# Altium footprint library QFN10-.PcbLib: 1 footprints
Each footprint in its own frame and in the unit in brackets; x right, y up, seen from the top. Pads: shape width x height; smd on the part's side, far side on the other; paste and mask are expansions set on the pad; w line width, h text height; cw(c..) or ccw(c..) is an arc to the next point about the centre after c.
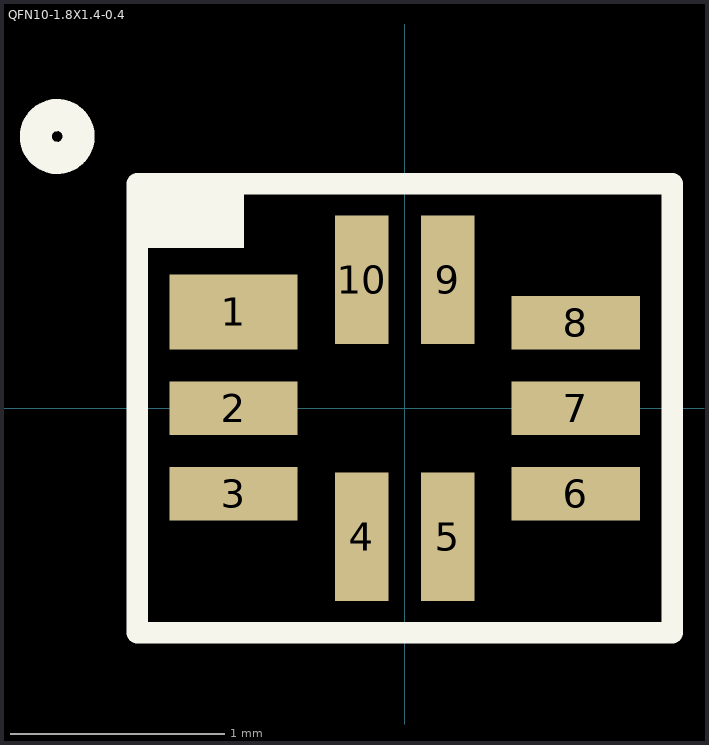
[diagram p0: the footprint, top view; thin cyan lines are the x and y axes]

## QFN10-1.8X1.4-0.4 [mm]
pads (10):
  rect 0.6x0.35 smd: 1(-0.8,0.45)
  rect 0.6x0.25 smd: 2(-0.8,0) 3(-0.8,-0.4) 6(0.8,-0.4) 7(0.8,0) 8(0.8,0.4)
  rect 0.25x0.6 smd: 4(-0.2,-0.6) 5(0.2,-0.6) 9(0.2,0.6) 10(-0.2,0.6)
Top Overlay:
  circle w0.15: c-1.624,1.27 r0.1
  rectangle: -1.25,0.75 -0.75,1.05
  lines w0.1: -1.25,-1.05 1.25,-1.05 1.25,1.05 -1.25,1.05 -1.25,-1.05
3D body: height 0.64, standoff 0, extent -0.889,-0.508 0.889,0.508